# Altium schematic symbol library RF.Splitters.SchLib: 4 symbols
Pins are listed as number, name and electrical type; pins without a type are passive.

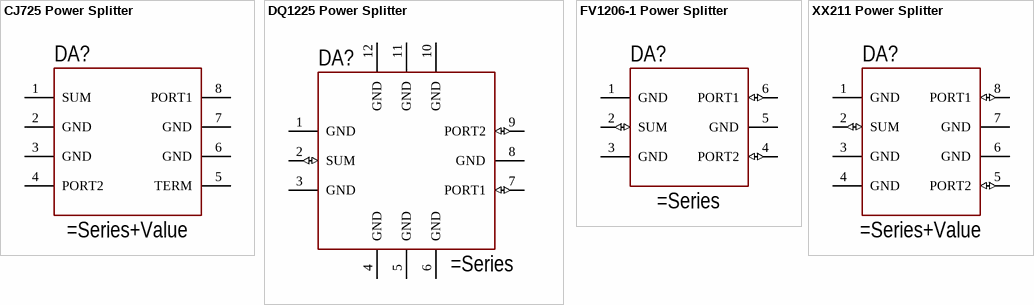
[diagram p0: symbols CJ725 Power Splitter to XX211 Power Splitter]

## CJ725 Power Splitter
designator DA?
RF Power Splitter/Combiner, CJ725 Package
pins: 1 SUM, 2 GND, 3 GND, 4 PORT2, 5 TERM, 6 GND, 7 GND, 8 PORT1

## DQ1225 Power Splitter
designator DA?
RF Power Splitter/Combiner, DQ1225 Package
pins: 1 GND, 2 SUM (io), 3 GND, 4 GND, 5 GND, 6 GND, 7 PORT1 (io), 8 GND, 9 PORT2 (io), 10 GND, 11 GND, 12 GND, PAD GND hidden to GND

## FV1206-1 Power Splitter
designator DA?
RF Power Splitter/Combiner, FV1206-1 Package
pins: 1 GND, 2 SUM (io), 3 GND, 4 PORT2 (io), 5 GND, 6 PORT1 (io)

## XX211 Power Splitter
designator DA?
RF Power Splitter/Combiner, XX211 Package
pins: 1 GND, 2 SUM (io), 3 GND, 4 GND, 5 PORT2 (io), 6 GND, 7 GND, 8 PORT1 (io)